# Altium schematic symbol library SMD8x10.2.SCHLIB: 1 symbol
Pins are listed as number, name and electrical type; pins without a type are passive.

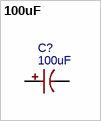
[diagram p0: symbol 100uF]

## 100uF
designator C?
BOM_Manufacturer: HONOR; BOM_Manufacturer Part: RVT1H101M0810; nameAlias: Capacitance; BOM_Supplier: LCSC; BOM_Supplier Part: C3352; spicePre: C; spiceSymbolName: RVT1H101M0810
footprint CAP-SMD_BD8.0-L8.3-W8.3-FD
pins: 1, 2